# Altium footprint library E22-900M30S.PcbLib: 1 footprints
Each footprint in its own frame and in the unit in brackets; x right, y up, seen from the top. Pads: shape width x height; smd on the part's side, far side on the other; paste and mask are expansions set on the pad; w line width, h text height; cw(c..) or ccw(c..) is an arc to the next point about the centre after c.
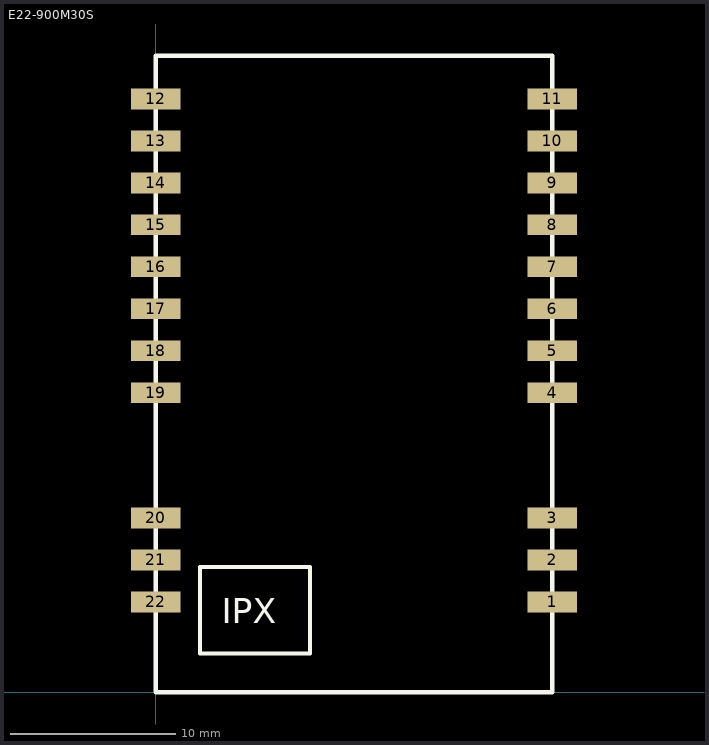
[diagram p0: the footprint, top view; thin cyan lines are the x and y axes]

## E22-900M30S [mm] "The E22-900M30S is based on the SX1262, a new generation of  LoRaTM RF chip manufactured by Semtech, USA. It is an ultra-small  and self-developed 868MHz?915MHz SMD LoRaTM wireless module"
height 4
pads (22):
  rect 3x1.25 smd: 1(24,5.46) 2(24,8) 3(24,10.54) 4(24,18.11) 5(24,20.65) 6(24,23.19) 7(24,25.73) 8(24,28.27) 9(24,30.81) 10(24,33.35) 11(24,35.89) 12(0,35.89) 13(0,33.35) 14(0,30.81) 15(0,28.27) 16(0,25.73) 17(0,23.19) 18(0,20.65) 19(0,18.11) 20(0,10.54) 21(0,8) 22(0,5.46)
Top Overlay:
  lines w0.254: 0,0 24,0 24,38.5 0,38.5 0,0 ; 2.69,2.34 9.34,2.34 9.34,7.58 2.69,7.58 2.69,2.34
  text "IPX" at 4.014,4.174 h1.52
3D body "E22-900M30S--3DModel-STEP-418109.STEP": height 3.97, standoff 0, extent 0.06,0.04 24.06,38.54